# Altium schematic symbol library PRTR5V0U2X,215.SchLib: 1 symbol
Pins are listed as number, name and electrical type; pins without a type are passive.

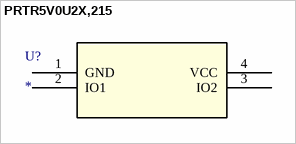
[diagram p0: symbol PRTR5V0U2X,215]

## PRTR5V0U2X,215
designator U?
No Description Available; Mfr_Name: Nexperia; RefDes: RefDes; Type: Type
footprint SOT143B_PRTR5V0U2X,215_NEX
pins: 1 GND, 2 IO1, 3 IO2, 4 VCC